# EAGLE library part USB-AB (library GTA04b7)
Molex USB-OTG mini plug
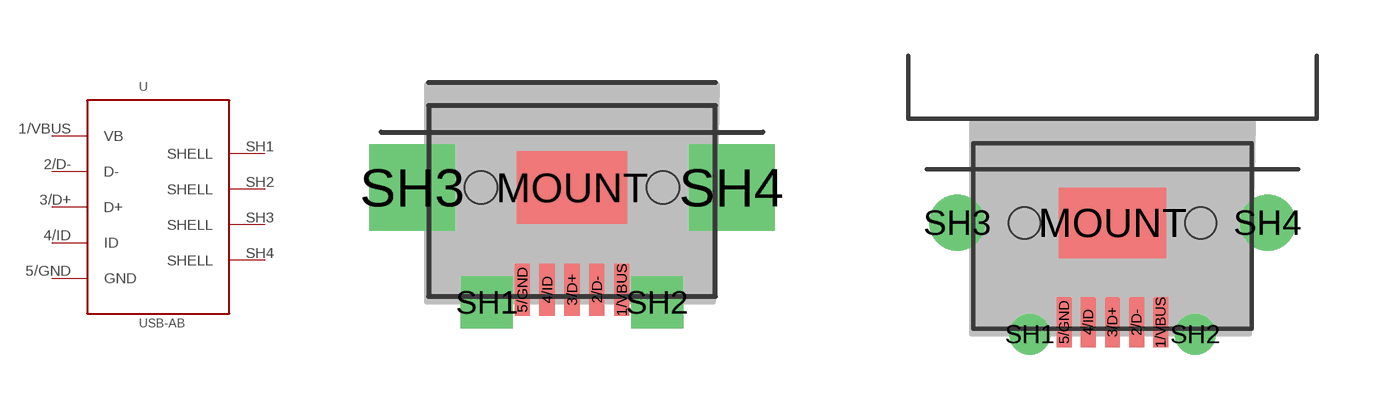
[diagram p53: symbol with the pads of SD-47589-0001; footprints SD-47589-0001, SD-47590-0001]

Designator prefix -

## USB-AB-47589-0001  [SD-47589-0001]
1/VBUS  VB  pwr
2/D-  D-
3/D+  D+
4/ID  ID
5/GND  GND  pwr
SH1  SHELL  pwr
SH2  SHELL  pwr
SH3  SHELL  pwr
SH4  SHELL  pwr

## USB-AB-47590-0001  [SD-47590-0001]
Pads as for SD-47589-0001

## USB-AB-56579-0519  [SD-56579-0519]
1/VBUS  VB  pwr
2/D-  D-
3/D+  D+
4/ID  ID
5/GND  GND  pwr
USB-S1  SHELL  pwr
USB-S2  SHELL  pwr
USB-S3  SHELL  pwr
USB-S4  SHELL  pwr

## USB-AB-56579-0576  [SD-56579-0576]
Pads as for SD-56579-0519

## USB-AB-67803-8020  [SD-67803-8020]
Pads as for SD-56579-0519

## Footprint SD-47589-0001 (pad centres in mm)
Micro-USB-AB (OTG) Socket Molex
smd 0.4 x 1.35: 1/VBUS 1.3,-2.675; 2/D- 0.65,-2.675; 3/D+ 0,-2.675; 4/ID -0.65,-2.675; 5/GND -1.3,-2.675
smd 2.9 x 1.9: MOUNT 0,0
drill 0.85 pad 1 square: SH1 -2.225,-3; SH2 2.225,-3
drill 1.5 pad 1.7 square: SH3 -4.175,0; SH4 4.175,0
hole 0.85 at -2.375,0
hole 0.85 at 2.375,0

## Footprint SD-47590-0001 (pad centres in mm)
Micro-USB-AB (OTG) Socket Molex
smd 0.4 x 1.35: 1/VBUS 1.3,-2.675; 2/D- 0.65,-2.675; 3/D+ 0,-2.675; 4/ID -0.65,-2.675; 5/GND -1.3,-2.675
smd 2.9 x 1.9: MOUNT 0,0
drill 0.6 pad 0.8: SH1 -2.225,-3; SH2 2.225,-3
drill 1 pad 1.3: SH3 -4.175,0; SH4 4.175,0
hole 0.85 at -2.375,0
hole 0.85 at 2.375,0

## Footprint SD-56579-0519 (pad centres in mm)
Molex Mini USB AB (OTG) SD-56579-0519
drill 0.7 pad 1: 1/VBUS 1.6,-6.8; 2/D- 0.8,-5.6; 3/D+ 0,-6.8; 4/ID -0.8,-5.6; 5/GND -1.6,-6.8
smd 1.4 x 2.5: USB-S1 -3.7,-6.25; USB-S2 3.7,-6.25
drill 1.6 pad 2: USB-S3 -3.65,-1.75; USB-S4 3.65,-1.75

## Footprint SD-56579-0576 (pad centres in mm)
Molex USB OTG plug
smd 0.5 x 2.25: 1/VBUS 1.6,-7.125; 2/D- 0.8,-7.125; 3/D+ 0,-7.125; 4/ID -0.8,-7.125; 5/GND -1.6,-7.125
smd 1.65 x 3.5: USB-S1 -4.7,-7.15; USB-S2 4.7,-7.15
smd 1.65 x 4: USB-S3 -4.7,-2.9; USB-S4 4.7,-2.9

## Footprint SD-67803-8020 (pad centres in mm)
Molex USB OTG plug SD-67803-8020
smd 0.5 x 2.25: 1/VBUS 1.6,-7.125; 2/D- 0.8,-7.125; 3/D+ 0,-7.125; 4/ID -0.8,-7.125; 5/GND -1.6,-7.125
smd 1.65 x 3.5: USB-S1 -4.7,-7.15; USB-S2 4.7,-7.15
smd 1.65 x 4: USB-S3 -4.7,-2.9; USB-S4 4.7,-2.9
hole 0.9 at -2.2,-4.8
hole 0.9 at 2.2,-4.8